# Altium schematic symbol library SCH - CONNECTORS - TE 9-966140-3.Schlib: 1 symbol
Pins are listed as number, name and electrical type; pins without a type are passive.

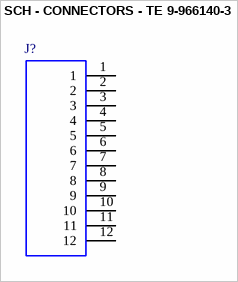
[diagram p0: symbol SCH - CONNECTORS - TE 9-966140-3]

## SCH - CONNECTORS - TE 9-966140-3
designator J?, comment 9-966140-3  (value not drawn)
footprint TE_9-966140-3
pins: 1, 2, 3, 4, 5, 6, 7, 8, 9, 10, 11, 12